# Altium footprint library Diode.PcbLib: 40 footprints (part 1 of 3)
Each footprint in its own frame and in the unit in brackets; x right, y up, seen from the top. Pads: shape width x height; smd on the part's side, far side on the other; paste and mask are expansions set on the pad; w line width, h text height; cw(c..) or ccw(c..) is an arc to the next point about the centre after c.
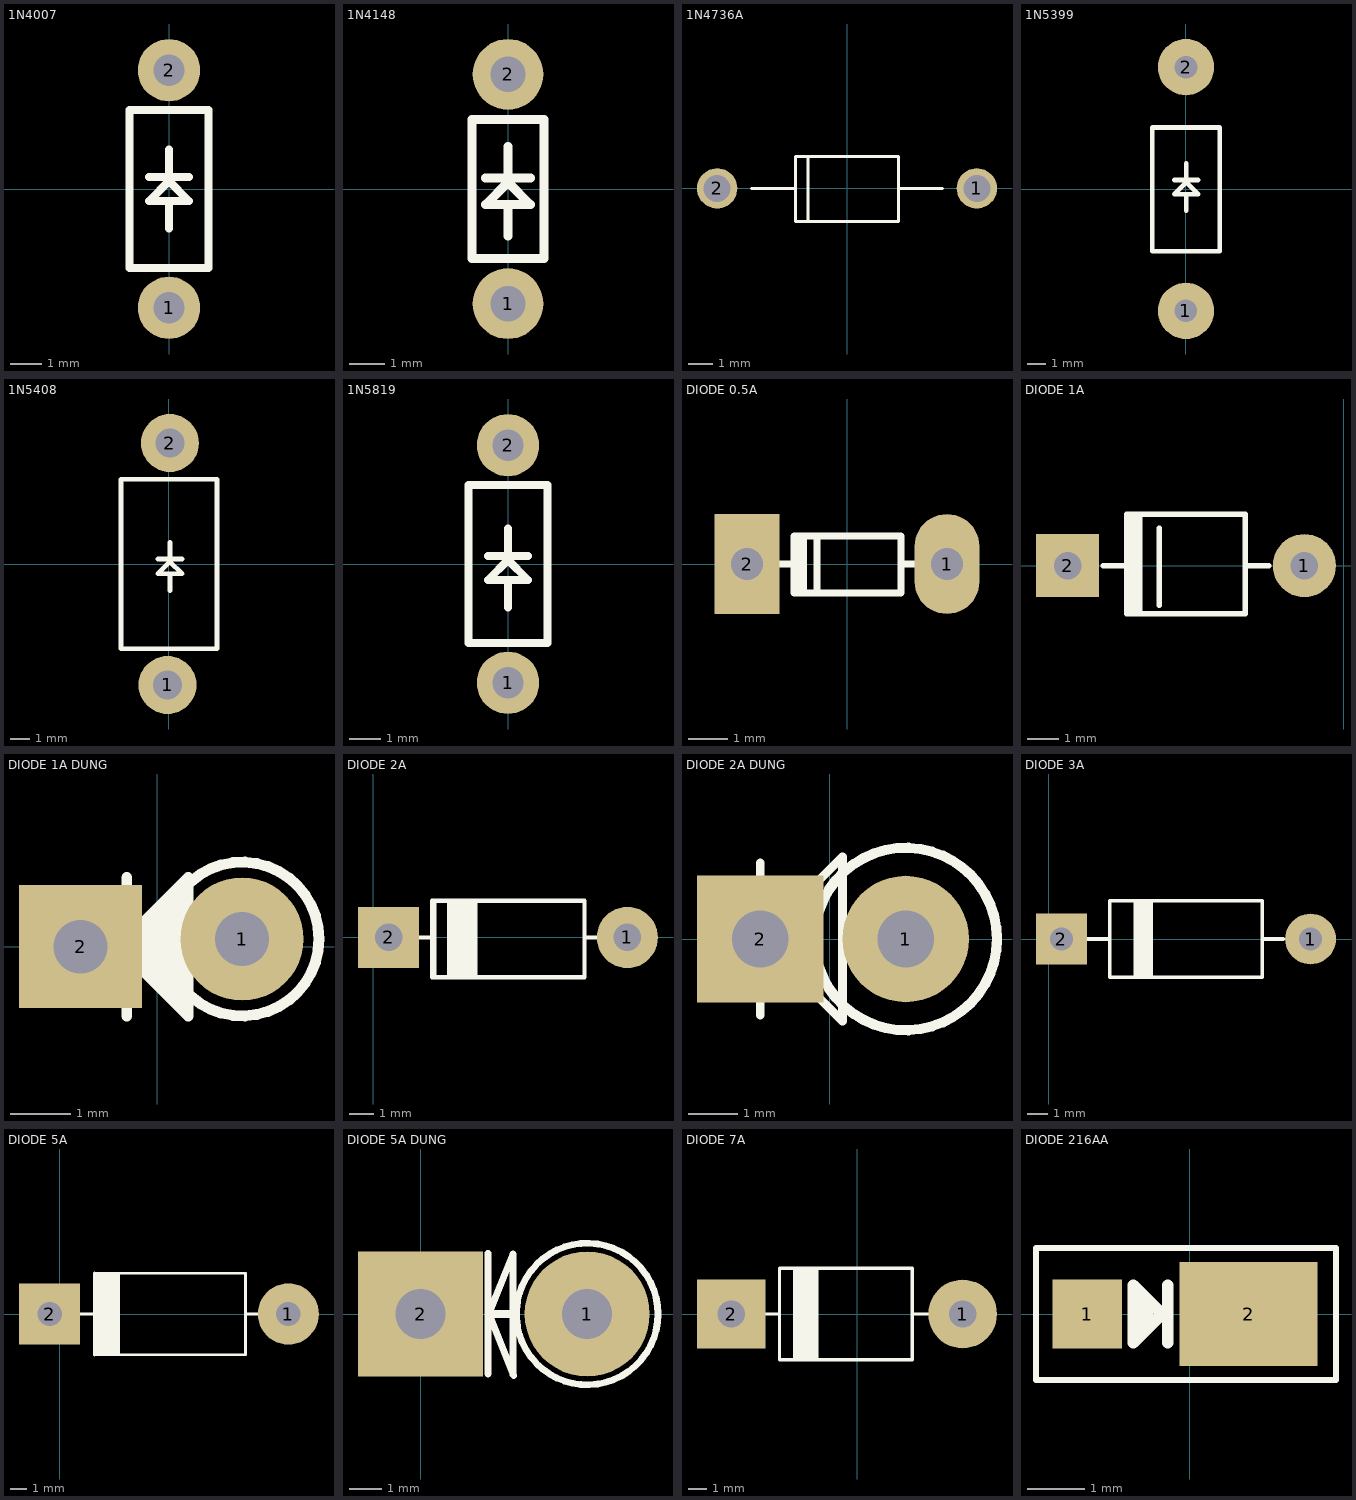
[diagram p0: the footprints below, top view; thin cyan lines are the x and y axes]

## 1N4007 [mm] "Rectifier Diode 1000V 1A DO-41"
pads (2):
  round 2 hole 1: 1(0,-3.81) 2(0,3.81)
Top Overlay:
  lines w0.254: -0.635,0.381 0.635,0.381 ; 0,-1.27 0,-0.381 ; 0,0.381 0,1.27 ; 0,-0.381 -0.635,-0.381 0,0.254 0.635,-0.381 0,-0.381 ; -1.27,-2.54 1.27,-2.54 1.27,2.54 -1.27,2.54 -1.27,-2.54
3D body "1N4007 (7,62mm).step": height 3.35, standoff -24.61, extent -1.35,-4.24 1.35,4.24

## 1N4148 [mm] "Diode Gen Purp 75V 300mA DO35"
pads (2):
  round 2 hole 1: 1(0,-3.238) 2(0,3.238)
Top Overlay:
  lines w0.254: -0.635,0.318 0.635,0.318 ; 0,-1.333 0,-0.445 ; 0,0.318 0,1.206 ; 0,-0.445 -0.635,-0.445 0,0.191 0.635,-0.445 0,-0.445 ; -1.016,-1.968 1.016,-1.968 1.016,1.968 -1.016,1.968 -1.016,-1.968
3D body "1N4148 (6,416mm).step": height 3, standoff -27.1, extent -1,-3.488 1,3.488

## 1N4736A [mm]
pads (2):
  round 1.65 hole 1.1: 1(5.3,0) 2(-5.3,0)
Top Overlay:
  lines w0.127: -3.9,0 -2.1,0 ; 3.9,0 2.1,0 ; -2.1,0 -2.1,-1.35 -1.6,-1.35 ; -2.1,0 -2.1,1.3 -1.6,1.3 ; -1.6,-1.35 -1.6,1.3 ; -1.6,-1.35 2.1,-1.35 2.1,0 ; -1.6,1.3 2.1,1.3 2.1,0
3D body "step_temp.STEP": height 2.68, standoff -21.77, extent -5.474,-1.346 5.474,1.346

## 1N5399 [mm] "Diode Gen Purp 1000V 1.5A DO15"
pads (2):
  round 3 hole 1.2: 1(0,-6.499) 2(0,6.499)
Top Overlay:
  lines w0.254: -0.617,0.486 0.653,0.486 ; 0.018,-1.165 0.018,-0.276 ; 0.018,0.486 0.018,1.375 ; 0.018,-0.276 -0.617,-0.276 0.018,0.359 0.653,-0.276 0.018,-0.276 ; -1.8,-3.324 1.8,-3.324 1.8,3.28 -1.8,3.28 -1.8,-3.324
3D body "1N5399.STEP": height 3.6, standoff -17.1, extent -1.8,-6.9 1.8,6.9

## 1N5408 [mil] "Diode Gen Purp 1000V 3A DO15"
pads (2):
  round 120 hole 60: 1(-2.5,-250) 2(2.5,250)
Top Overlay:
  lines w10: -22.5,10 27.5,10 ; 2.5,-55 2.5,-20 ; 2.5,10 2.5,45 ; 2.5,-20 -22.5,-20 2.5,5 27.5,-20 2.5,-20 ; -98.92,-175 -98.92,175 100,175 100,-175 -98.92,-175
3D body "1N5408.step": height 216.97, standoff -112.2, extent -98.86,-273.62 98.86,273.62

## 1N5819 [mm] "Rectifier Schottky 40V 1A DO-15"
pads (2):
  round 2 hole 1: 1(0,-3.81) 2(0,3.81)
Top Overlay:
  lines w0.254: -0.635,0.254 0.635,0.254 ; 0,-1.397 0,-0.508 ; 0,0.254 0,1.143 ; 0,-0.508 -0.635,-0.508 0,0.127 0.635,-0.508 0,-0.508 ; -1.27,-2.54 1.27,-2.54 1.27,2.54 -1.27,2.54 -1.27,-2.54
3D body "1N5819 (7,62mm).step": height 3.35, standoff -24.61, extent -1.35,-4.24 1.35,4.24

## DIODE 0.5A [mil] "Diode muoi, xung"
height 80
pads (2):
  oval 65x100 hole 32: 1(100,0)
  rect 65x100 hole 32: 2(-100,0)
Top Overlay:
  rectangle: -55,-30 -40,25
  lines w7: -80,0 -53,0 ; -30,-29 -30,28 ; 54,0 80,0 ; -53,-29 54,-29 54,28 -53,28 -53,-29
3D body "SW3dPS-1N4148.STEP": height 61.22, standoff -50, extent -108.5,-32.96 108.5,32

## DIODE 1A [mil] "Diode 1A"
height 100
pads (2):
  round 80 hole 35: 1(-50,0)
  rect 80x80 hole 35: 2(-350,0)
Top Overlay:
  rectangle: -275,-60.98 -255,65
  lines w7: -305,0 -275,0 ; -275,-16 -275,0 ; -275,21 -275,0 ; -234,-50 -234,47 ; -125,0 -95,0 ; -275,0 -275,-60.98 -125,-60.98 -125,65 -275,65 -275,0
3D body "User Library-DO-15-1.step": height 122.05, standoff -137.8, extent -365.75,-60.98 -34.25,65

## DIODE 1A DUNG [mil] "Diode 1A DUNG"
height 100
pads (2):
  round 80 hole 35: 1(55,5)
  rect 80x80 hole 35: 2(-50,0)
Top Overlay:
  circle w7: c55,5 r50
  region: 20,40 20,-40 15,-40 -20,-5 -20,5
  lines w7: -30,0 -20,0 ; -20,-45 -20,45 ; -20,-5 20,-45 20,45 -20,5 -20,-5
3D body "SW3dPS-1N4007_Stand.STEP": height 252.32, standoff -78.14, extent -64,-50 104,55

## DIODE 2A [mil] "Diode 2A"
height 100
pads (2):
  round 100 hole 45: 1(415,0)
  rect 100x100 hole 45: 2(25,0)
Top Overlay:
  rectangle: 120,-65 170,60
  lines w7: 61,0 96,0 ; 96,-31 96,0 ; 96,32 96,0 ; 100,-65 100,60 ; 345,0 391,0 ; 96,-65 345,-65 345,60 96,60 96,-65
3D body "User Library-DO-15-1 (1).step": height 112.99, standoff -146.85, extent 4.25,-65 435.75,60.98

## DIODE 2A DUNG [mil] "Diode 2A DUNG"
height 100
pads (2):
  round 100 hole 45: 1(60,0)
  rect 100x100 hole 45: 2(-55,0)
Top Overlay:
  circle w8: c60,0 r72.11
  lines w7: -55,-60 -55,60 ; 10,50 10,65 -55,0 10,-65 10,55
3D body "SW3dPS-Zener 1W_Stand.STEP": height 252.32, standoff -78.14, extent -68.99,-49.99 99.01,55

## DIODE 3A [mil] "Diode 3A"
height 100
pads (2):
  round 100 hole 45: 1(515,0)
  rect 100x100 hole 45: 2(25,0)
Top Overlay:
  rectangle: 170,-75 205,75
  lines w7: 76,0 120,0 ; 170,-75 170,75 ; 425,0 461,0 ; 120,-75 420,-75 420,75 120,75 120,-75
3D body "User Library-DO15A_12_6.step": height 141.73, standoff -7.87, extent 4.25,-71.73 535.75,70

## DIODE 5A [mil] "Diode 5A, W 200mil, L 550mil"
height 150
pads (2):
  round 150 hole 60: 1(560,0)
  rect 150x150 hole 60: 2(-25,0)
Top Overlay:
  rectangle: 85,-100 148,100
  lines w7: 50,0 118,0 ; 85,-100 455,-100 455,100 85,100 ; 455,0 490,0
  lines w7.87: 85,-100 85,100
3D body "SW3dPS-BYW98.STEP": height 210.63, standoff -129.92, extent -51.87,-106 589.87,102.66

## DIODE 5A DUNG [mil] "Diode 5A DUNG"
height 150
pads (2):
  round 150 hole 60: 1(200,0)
  rect 150x150 hole 60: 2(0,0)
Top Overlay:
  circle w8: c200,0 r85
  lines w8: 81,-72 81,73 ; 82,0 111,72 111,-73 ; 83,-2 112,-74
  lines w10: 82,0 113,0
3D body "User Library-1N540X.STEP": height 450.79, standoff -157.48, extent -32.07,-111.18 222.07,90

## DIODE 7A [mil] "Diode 7A"
height 150
pads (2):
  round 150 hole 60: 1(230,0)
  rect 150x150 hole 60: 2(-275,0)
Top Overlay:
  rectangle: -140,-100 -85,100
  lines w7: -250,0 -212,0 ; -212,-44 -212,0 ; -212,46 -212,0 ; -205,0 -170,0 ; 120,0 155,0 ; -170,-100 120,-100 120,100 -170,100 -170,-100
3D body "User Library-P600.step": height 318.9, standoff -157.48, extent -296.26,-161.42 250.98,161.42

## DIODE 216AA [mm] "DO-216AA"
pads (2):
  rect 1.2x1.2 smd: 1(-1.778,0)
  rect 2.4x1.8 smd: 2(1.022,0)
Top Overlay:
  lines w0.102: -2.667,-1.143 -2.667,1.143 2.54,1.143 2.54,-1.143 -2.667,-1.143
  lines w0.2: -0.878,-0.3 -0.878,0.3 ; -0.728,-0.15 -0.728,0.15 ; -0.378,-0.5 -0.378,0.5 ; -0.978,-0.5 -0.478,0 -0.978,0.5 -0.978,-0.5
3D body "User Library-microsemi_powermite.step": height 1.02, standoff 0, extent -1.994,-0.955 1.766,0.955